# Altium footprint library PLD_PLS_connectors.PcbLib: 22 footprints (part 2 of 2)
Each footprint in its own frame and in the unit in brackets; x right, y up, seen from the top. Pads: shape width x height; smd on the part's side, far side on the other; paste and mask are expansions set on the pad; w line width, h text height; cw(c..) or ccw(c..) is an arc to the next point about the centre after c.
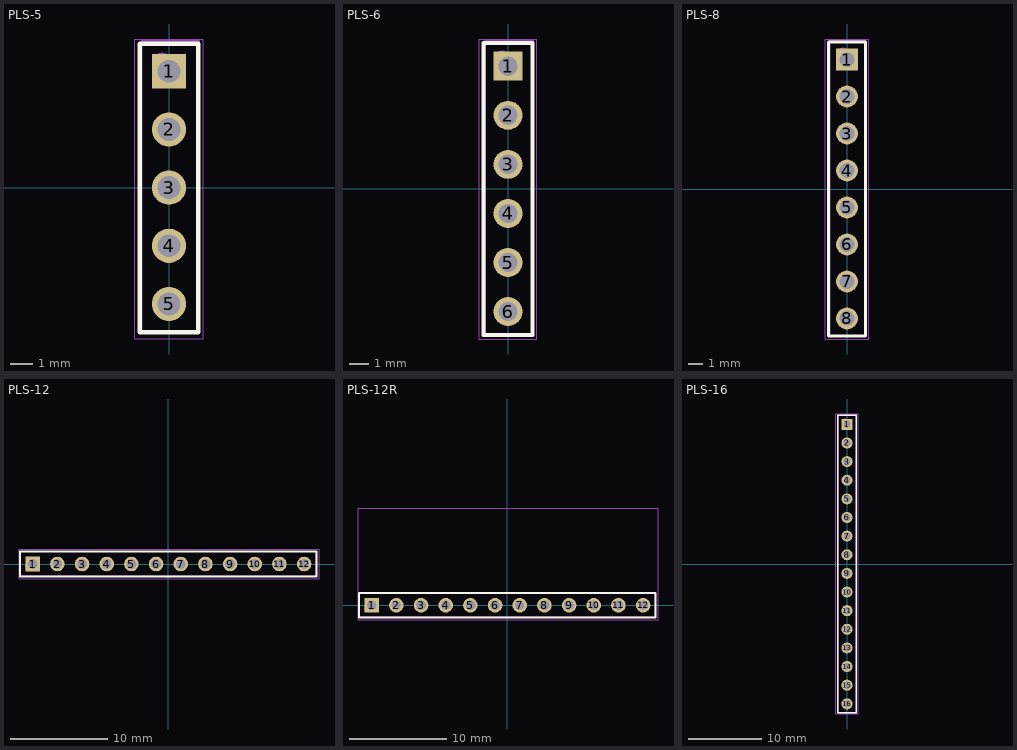
[diagram p1: the footprints below, top view; thin cyan lines are the x and y axes]

## PLS-5 [mm]
pads (5):
  rect 1.5x1.5 hole 1: 1(0,5.08)
  round 1.5 hole 1: 2(0,2.54) 3(0,0) 4(0,-2.54) 5(0,-5.08)
Top Overlay:
  lines w0.2: -1.27,-6.31 1.27,-6.31 1.27,6.29 -1.27,6.29 -1.27,-6.31
Top Assembly:
  circle w0.4: c-0.3,5.49 r0.2
  lines w0.1: -1.2,-6.31 -1.2,6.39 1.3,6.39 1.3,-6.31 -1.2,-6.31
  text ".Designator" at -4.998,-0.333 h1
Top Courtyard (Mech15):
  lines w0.05: -1.5,-6.61 -1.5,6.49 1.5,6.49 1.5,-6.61 -1.5,-6.61
3D body "DS1021-1x5SF11.stp": height 8.6, standoff -3, extent -1.2,-6.31 1.34,6.39

## PLS-6 [mm]
pads (6):
  rect 1.5x1.5 hole 1: 1(0,6.35)
  round 1.5 hole 1: 2(0,3.81) 3(0,1.27) 4(0,-1.27) 5(0,-3.81) 6(0,-6.35)
Top Overlay:
  lines w0.2: -1.27,-7.565 1.27,-7.565 1.27,7.56 -1.27,7.56 -1.27,-7.565
Top Assembly:
  circle w0.4: c-0.3,6.76 r0.2
  lines w0.1: -1.2,-7.59 -1.2,7.66 1.3,7.66 1.3,-7.59 -1.2,-7.59
  text ".Designator" at -4.998,-0.333 h1
Top Courtyard (Mech15):
  lines w0.05: -1.5,-7.77 -1.5,7.76 1.5,7.76 1.5,-7.77 -1.5,-7.77
3D body "User Library-PLS-6-1.STEP": height 8.54, standoff -3, extent -1.27,-7.63 1.27,7.61

## PLS-8 [mm]
pads (8):
  rect 1.5x1.5 hole 1: 1(0,8.89)
  round 1.5 hole 1: 2(0,6.35) 3(0,3.81) 4(0,1.27) 5(0,-1.27) 6(0,-3.81) 7(0,-6.35) 8(0,-8.89)
Top Overlay:
  lines w0.2: -1.27,-10.1 -1.27,10.1 1.27,10.1 1.27,-10.1 -1.27,-10.1
Top Assembly:
  circle w0.4: c-0.3,9.3 r0.2
  lines w0.1: -1.2,-10.12 1.3,-10.12 1.3,10.2 -1.2,10.2 -1.2,-10.12
  text ".Designator" at -4.998,-0.333 h1
Top Courtyard (Mech15):
  lines w0.05: -1.5,-10.3 1.5,-10.3 1.5,10.3 -1.5,10.3 -1.5,-10.3
3D body "DS1021-1x8SF11.stp": height 8.6, standoff -3, extent -1.27,-10.16 1.27,10.16

## PLS-12 [mm]
pads (12):
  rect 1.5x1.5 hole 1: 1(-13.97,0)
  round 1.5 hole 1: 2(-11.43,0) 3(-8.89,0) 4(-6.35,0) 5(-3.81,0) 6(-1.27,0) 7(1.27,0) 8(3.81,0) 9(6.35,0) 10(8.89,0) 11(11.43,0) 12(13.97,0)
Top Overlay:
  lines w0.2: -15.27,-1.27 -15.27,1.27 15.23,1.27 15.23,-1.27 -15.27,-1.27
Top Assembly:
  circle w0.4: c-14.38,-0.3 r0.2
  lines w0.1: -15.28,-1.2 15.23,-1.2 15.23,1.3 -15.28,1.3 -15.28,-1.2
  text ".Designator" at -4.998,-0.333 h1
Top Courtyard (Mech15):
  lines w0.05: -15.38,-1.5 15.5,-1.5 15.5,1.5 -15.38,1.5 -15.38,-1.5
3D body "DS1021-1x6SF11.stp": height 8.6, standoff -3, extent 0,-1.27 15.24,1.27
3D body "DS1021-1x6SF11.stp": height 8.6, standoff -3, extent -15.24,-1.27 0,1.27

## PLS-12R [mm]
pads (12):
  rect 1.5x1.5 hole 1: 1(-13.97,0)
  round 1.5 hole 1: 2(-11.43,0) 3(-8.89,0) 4(-6.35,0) 5(-3.81,0) 6(-1.27,0) 7(1.27,0) 8(3.81,0) 9(6.35,0) 10(8.89,0) 11(11.43,0) 12(13.97,0)
Top Overlay:
  lines w0.2: -15.27,-1.27 15.23,-1.27 15.23,1.27 -15.27,1.27 -15.27,-1.27
Top Assembly:
  circle w0.4: c-14.38,-0.3 r0.2
  lines w0.1: -15.28,-1.2 -15.28,1.3 15.23,1.3 15.23,-1.2 -15.28,-1.2
  text ".Designator" at -4.998,-0.333 h1
Top Courtyard (Mech15):
  lines w0.05: -15.38,-1.5 -15.38,10 15.5,10 15.5,-1.5 -15.38,-1.5
3D body "DS1022-1x6RDF11.stp": height 2.54, standoff -3, extent 0,-0.325 15.24,10.025
3D body "DS1022-1x6RDF11.stp": height 2.54, standoff -3, extent -15.24,-0.325 0,10.025

## PLS-16 [mm]
pads (16):
  rect 1.5x1.5 hole 1: 1(0,19.05)
  round 1.5 hole 1: 2(0,16.51) 3(0,13.97) 4(0,11.43) 5(0,8.89) 6(0,6.35) 7(0,3.81) 8(0,1.27) 9(0,-1.27) 10(0,-3.81) 11(0,-6.35) 12(0,-8.89) 13(0,-11.43) 14(0,-13.97) 15(0,-16.51) 16(0,-19.05)
Top Overlay:
  lines w0.2: -1.27,-20.24 -1.27,20.26 1.27,20.26 1.27,-20.24 -1.27,-20.24
Top Assembly:
  circle w0.4: c-0.3,19.46 r0.2
  lines w0.1: -1.2,-20.36 1.3,-20.36 1.3,20.36 -1.2,20.36 -1.2,-20.36
  text ".Designator" at -4.998,-0.333 h1
Top Courtyard (Mech15):
  lines w0.05: -1.5,-20.44 1.5,-20.44 1.5,20.46 -1.5,20.46 -1.5,-20.44